# EAGLE library part J-USB6-? (library VIO_module)
USB connector
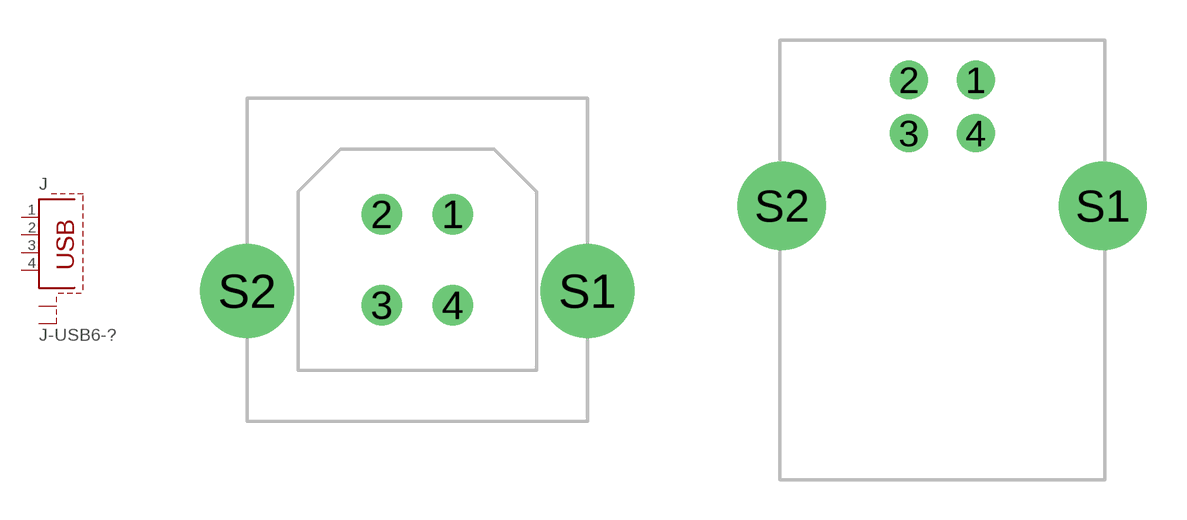
[diagram p2: symbol with the pads of J-USB6-BV; footprints J-USB6-BV, J-USB6-BH]

Designator prefix J

## J-USB6-BV  [J-USB6-BV]
1  1  pas
2  2  pas
3  3  pas
4  4  pas
S1  S1  pas
S2  S2  pas

## J-USB6-BH  [J-USB6-BH]
Pads as for J-USB6-BV

## Footprint J-USB6-BV (pad centres in mm)
USB B-type vertical through hole connector
drill 0.92 round: 1 1.25,1.6; 2 -1.25,1.6; 3 -1.25,-1.6; 4 1.25,-1.6
drill 2.3 round: S1 6,-1.1; S2 -6,-1.1

## Footprint J-USB6-BH (pad centres in mm)
drill 0.92 round: 1 1.25,15; 2 -1.25,15; 3 -1.25,13; 4 1.25,13
drill 2.3 round: S1 6.02,10.28; S2 -6.02,10.28